# EAGLE library part UCC3911-1 (library satellite)
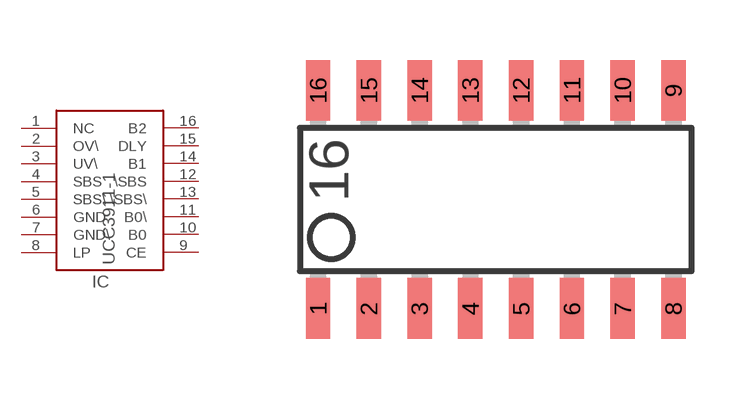
[diagram p0: symbol with the pads of SO-16; footprint SO-16]

Designator prefix IC

## UCC3911-1  [SO-16]
1  NC
2  OV\
3  UV\
4  SBS
5  SBS\
6  GND
7  GND\
8  LP
9  CE
10  B0
11  B0\
12  \SBS
13  \SBS\
14  B1
15  DLY
16  B2

## Footprint SO-16 (pad centres in mm)
smd 0.61 x 1.524: 1 -4.445,-2.794; 2 -3.175,-2.794; 3 -1.905,-2.794; 4 -0.635,-2.794; 5 0.635,-2.794; 6 1.905,-2.794; 7 3.175,-2.794; 8 4.445,-2.794; 9 4.445,2.667; 10 3.175,2.667; 11 1.905,2.667; 12 0.635,2.667; 13 -0.635,2.667; 14 -1.905,2.667; 15 -3.175,2.667; 16 -4.445,2.667